# Altium footprint library PcbLib1.PcbLib: 15 footprints
Each footprint in its own frame and in the unit in brackets; x right, y up, seen from the top. Pads: shape width x height; smd on the part's side, far side on the other; paste and mask are expansions set on the pad; w line width, h text height; cw(c..) or ccw(c..) is an arc to the next point about the centre after c.
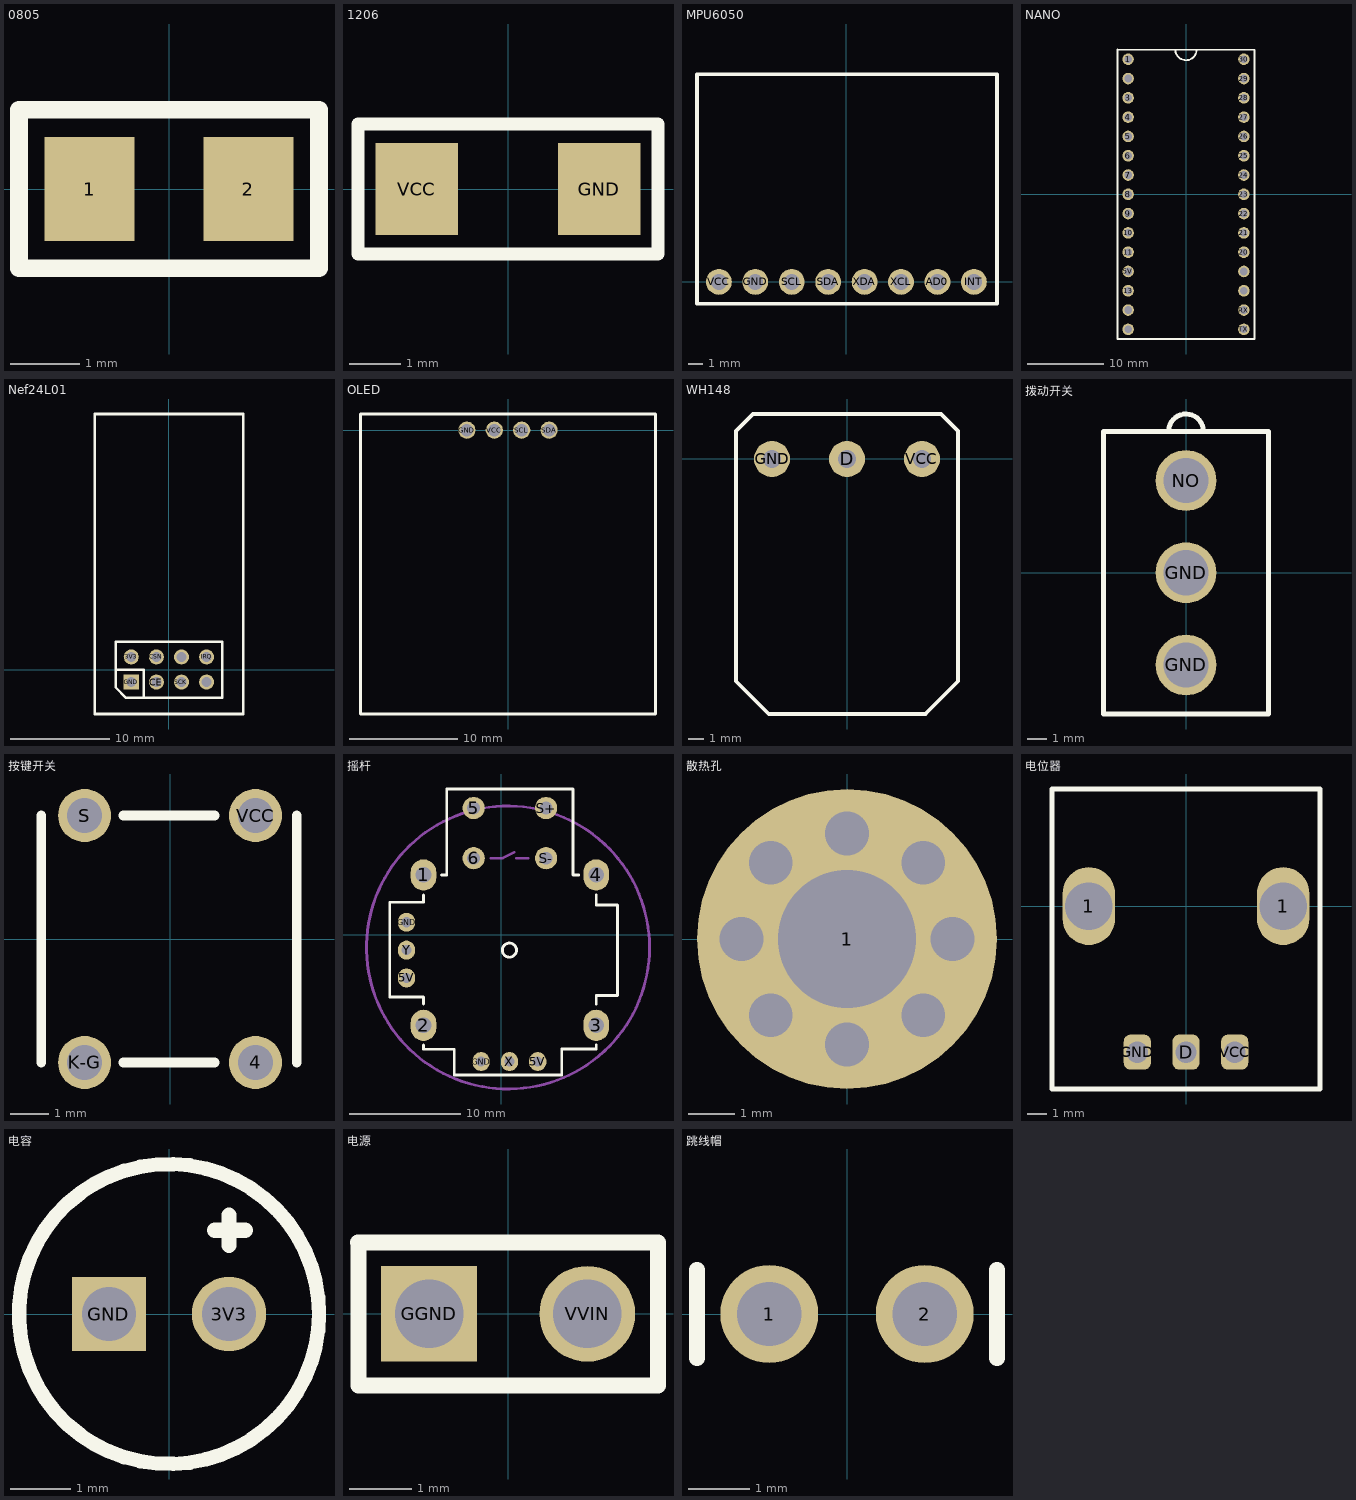
[diagram p0: the footprints below, top view; thin cyan lines are the x and y axes]

## 0805 [mm]
height 0.5
pads (2):
  rect 1.3x1.5 smd: 1(-1.143,0) 2(1.143,0)
Top Overlay:
  lines w0.254: -2.159,-1.143 -2.159,0.635 -2.159,1.143 2.159,1.143 2.159,0.508 2.159,-1.143 -2.159,-1.143
3D body "R0805.STEP": height 0.55, standoff 0, extent -1,-0.63 1,0.63

## 1206 [mm]
pads (2):
  rect 1.6x1.8 smd: GND(1.778,0) VCC(-1.778,0)
Top Overlay:
  lines w0.254: -2.921,-1.27 -2.921,1.27 2.921,1.27 2.921,-1.27 -2.921,-1.27
3D body "FB1206.step": height 1.1, standoff 0, extent -1.6,-0.8 1.6,0.8

## MPU6050 [mm]
pads (8):
  round 1.8 hole 1.1: AD0(6.35,0) GND(-6.35,0) INT(8.89,0) SCL(-3.81,0) SDA(-1.27,0) VCC(-8.89,0) XCL(3.81,0) XDA(1.27,0)
Top Overlay:
  lines w0.254: 10.5,0 10.5,1.778 ; -10.414,-1.524 -10.414,14.476 10.5,14.476 10.5,-1.524 -10.414,-1.524

## NANO [mil]
pads (30):
  round 59.06 hole 40: 1(-300,700) 30(300,700)
  round 60 hole 40: 3(-300,500) 3V3(-300,600) 4(-300,400) 5(-300,300) 5V(-300,-400) 6(-300,200) 7(-300,100) 8(-300,0) 9(-300,-100) 10(-300,-200) 11(-300,-300) 13(-300,-500) 20(300,-300) 21(300,-200) 22(300,-100) 23(300,0) 24(300,100) 25(300,200) 26(300,300) 27(300,400) 28(300,500) 29(300,600) GGND(-300,-600) GND(300,-400) RST(300,-500) RX(300,-600) TX(300,-700) VIN(-300,-700)
Top Overlay:
  lines w10: -354.33,750 -354.33,-750 354.33,-750 ; -354.33,750.36 354.33,747.63 ; -54.81,745.43 ccw(c0,750) 54.66,743.93 ; 354.33,-748.03 354.33,743.93

## Nef24L01 [mil]
pads (8):
  round 60 hole 39: 3V3(-150,50) CE(-50,-50) CSN(-50,50) IRQ(150,50) MISO(150,-50) MOSI(50,50) SCK(50,-50)
  rect 60x60 hole 39: GND(-150,-50)
Top Overlay:
  lines w10: -212.6,-35 -212.6,0 -100,0 -100,-112.99 ; 212.6,-35 212.6,0 ; 295,-177.17 -294.71,-177.17 -294.71,1017.72 295.28,1017.72 295.28,-177.17 ; 295.28,0 295.28,195 ; -212.6,-70.63 -212.6,111.02 212.6,111.02 212.6,-112.99 -170.24,-112.99 -212.6,-70.63

## OLED [mm] "0.96"
pads (4):
  round 1.6 hole 1.15: GND(-3.81,0) SCL(1.27,0) SDA(3.81,0) VCC(-1.27,0)
Top Overlay:
  lines w0.254: -13.66,-26.3 13.66,-26.3 13.66,1.5 -13.66,1.5 -13.66,-26.3

## WH148 [mm] "10k 5mm间距"
pads (3):
  round 2.4 hole 1.2: D(0,0) GND(-5,0) VCC(5,0)
Top Overlay:
  lines w0.254: -5.216,-17.009 -7.4,-14.825 -7.4,1.871 -6.271,3 6.271,3 7.4,1.871 7.4,-14.825 5.233,-16.992 ; -5.207,-17 5.241,-17

## 拨动开关 [mm]
pads (3):
  round 3.1 hole 2.3: GND(0,-4.7) GND(0,0) NO(0,4.7)
Top Overlay:
  lines w0.254: -0.889,7.231 cw(c0,7.2) 0.89,7.2 ; -4.2,-7.2 -4.2,7.2 4.2,7.2 4.2,-7.2 -4.2,-7.2

## 按键开关 [mil]
pads (4):
  round 55 hole 36: 4(88.58,-127.95) K-G(-88.58,-127.95) S(-88.58,127.95) VCC(88.58,127.95)
Top Overlay:
  lines w10: -133.58,-127.95 -133.58,127.95 ; -48.58,-127.95 46.42,-127.95 ; -48.58,127.95 46.42,127.95 ; 131.42,-127.95 131.42,127.95

## 摇杆 [mm]
pads (14):
  oval 2.3x2.8 hole 1.4: 1(-6.988,5.375) 2(-6.988,-8.125) 3(8.512,-8.125) 4(8.512,5.375)
  round 2 hole 1.15: 5(-2.488,11.375) 6(-2.488,6.875) S+(4.012,11.375) S-(4.012,6.875)
  oval 1.55x1.7 hole 0.9: 5V(-8.512,-3.875) 5V(3.262,-11.375) GND(-8.512,1.125) GND(-1.818,-11.375) X(0.722,-11.375) Y(-8.512,-1.375)
Top Overlay:
  circle w0.254: c0.722,-1.375 r0.635
  lines w0.254: -6.988,-9.902 -6.988,-10.268 -4.231,-10.268 -4.231,-12.569 5.421,-12.569 5.421,-10.259 8.512,-10.259 8.512,-9.902 ; -6.988,-6.219 -6.988,-5.584 -10.015,-5.584 -10.015,2.925 -6.988,2.925 -6.988,3.56 ; -5.374,5.375 -4.904,5.375 -4.904,13.085 6.422,13.085 6.422,5.375 6.945,5.375 ; -0.998,-12.575 0.722,-12.575 ; 8.512,-6.219 8.512,-5.457 10.417,-5.457 10.417,2.671 8.512,2.671 ; 8.512,2.798 8.512,3.56
Mechanical 15:
  circle w0.254: c0.595,-1.139 r12.7
  lines w0.254: -0.926,6.875 0.09,6.875 1.153,7.406 ; 1.36,6.875 2.376,6.875

## 散热孔 [mil]
pads (9):
  round 255.91 hole 118.11: 1(0,0)
  round 0 hole 37.4: 2(-90,0) 2(0,-90) 2(0,90) 2(90,0) 3(-65,-65) 3(-65,65) 3(65,-65) 3(65,65)

## 电位器 [mm]
pads (5):
  oval 2.7x4 hole 2.45: 1(-4.99,-0.004) 1(4.99,-0.004)
  rrect50% 1.4x1.8 hole 1.1: D(0,-7.504) GND(-2.5,-7.504) VCC(2.5,-7.504)
Top Overlay:
  lines w0.254: 6.877,6.002 6.877,-9.398 -6.879,-9.398 -6.879,6.002 6.877,6.012

## 电容 [mm]
pads (2):
  round 1.24 hole 0.9: 3V3(1,0)
  rect 1.24x1.24 hole 0.9: GND(-1,0)
Top Overlay:
  circle w0.24: c0,0 r2.5
  lines w0.254: 0.762,1.397 1.27,1.397 ; 1,1.143 1,1.651

## 电源 [mm]
pads (2):
  rect 1.54x1.54 hole 1.1: GGND(-1.27,0)
  round 1.54 hole 1.1: VVIN(1.27,0)
Top Overlay:
  lines w0.254: -2.413,1.143 2.406,1.143 2.406,-1.15 -2.406,-1.15 -2.406,1.143

## 跳线帽 [mm]
pads (2):
  round 1.6 hole 1.05: 1(-1.27,0) 2(1.27,0)
Top Overlay:
  lines w0.254: -2.45,-0.725 -2.45,0.725 ; 2.45,-0.725 2.45,0.725